# Altium footprint library jx.PcbLib: 37 footprints (part 3 of 3)
Each footprint in its own frame and in the unit in brackets; x right, y up, seen from the top. Pads: shape width x height; smd on the part's side, far side on the other; paste and mask are expansions set on the pad; w line width, h text height; cw(c..) or ccw(c..) is an arc to the next point about the centre after c.
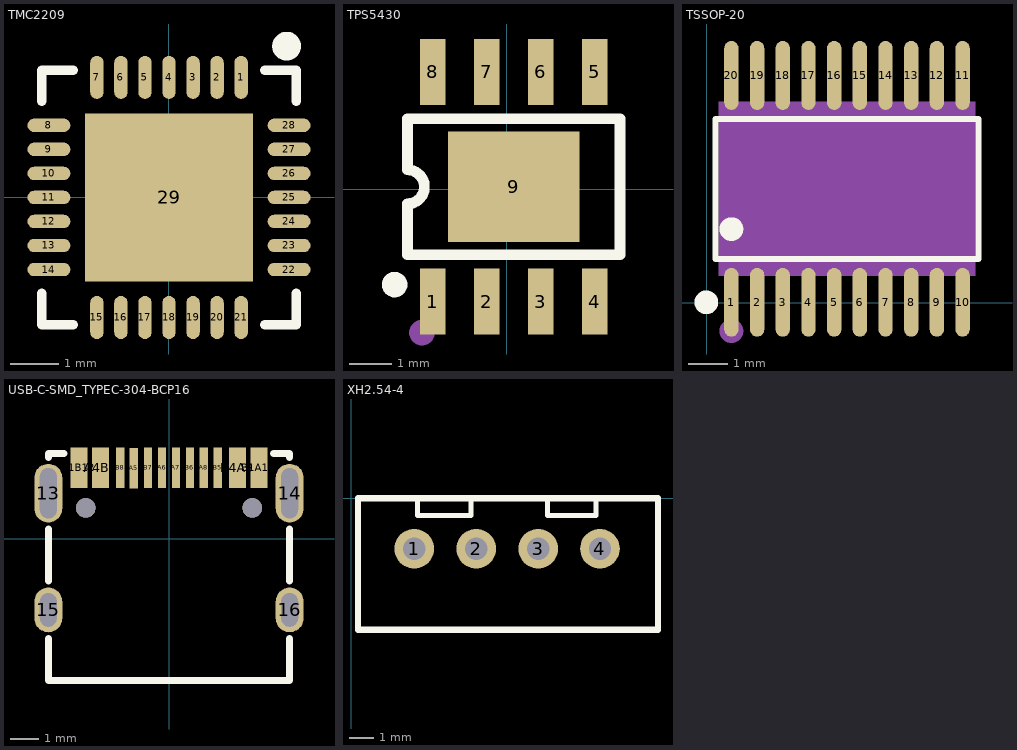
[diagram p2: the footprints below, top view; thin cyan lines are the x and y axes]

## TMC2209 [mm]
pads (29):
  oval 0.28x0.896 smd: 1(1.501,2.5) 2(1.001,2.5) 3(0.501,2.5) 4(0,2.5) 5(-0.5,2.5) 6(-1.001,2.5) 7(-1.501,2.5) 15(-1.501,-2.5) 16(-1.001,-2.5) 17(-0.5,-2.5) 18(0,-2.5) 19(0.501,-2.5) 20(1.001,-2.5) 21(1.501,-2.5)
  oval 0.896x0.28 smd: 8(-2.5,1.501) 9(-2.5,1.001) 10(-2.5,0.5) 11(-2.5,0) 12(-2.5,-0.5) 13(-2.5,-1.001) 14(-2.5,-1.501) 22(2.5,-1.501) 23(2.5,-1.001) 24(2.5,-0.5) 25(2.5,0) 26(2.5,0.5) 27(2.5,1.001) 28(2.5,1.501)
  rect 3.5x3.5 smd: 29(0,0)
Top Overlay:
  lines w0.2: -2.65,-2 -2.65,-2.65 -2,-2.65 ; -2.65,2 -2.65,2.65 -2,2.65 ; 2,-2.65 2.65,-2.65 2.65,-2 ; 2,2.65 2.65,2.65 2.65,2
  lines w0.3: 2.449,3 cw(c2.45,3.15) 2.451,3
3D body: height 1, standoff 0.25, extent -2.667,-2.616 2.642,2.642

## TPS5430 [mm]
pads (9):
  rect 0.6x1.55 smd: 1(-1.742,-2.648) 2(-0.472,-2.648) 3(0.798,-2.648) 4(2.068,-2.648) 5(2.068,2.752) 6(0.798,2.752) 7(-0.472,2.752) 8(-1.742,2.752)
  rect 3.1x2.6 smd: 9(0.163,0.052)
Top Overlay:
  circle w0.3: c-2.638,-2.248 r0.15
  lines w0.254: -2.338,-1.548 -2.338,-0.348 ccw(c-2.338,0.052) -2.338,0.452 -2.337,1.652 2.661,1.652 2.661,-1.548 -2.337,-1.548
Mechanical 15:
  circle w0.3: c-1.996,-3.377 r0.15
3D body "SOIC8_4P9X3P9MC_MCH.step": height 1.75, standoff 0, extent -2.304,-2.907 2.598,3.291

## TSSOP-20 [mm]
pads (20):
  oval 0.364x1.742 smd: 1(0.62,0.006) 2(1.27,0.006) 3(1.92,0.006) 4(2.57,0.006) 5(3.22,0.006) 6(3.87,0.006) 7(4.52,0.006) 8(5.17,0.006) 9(5.82,0.006) 10(6.47,0.006) 11(6.47,5.748) 12(5.82,5.748) 13(5.17,5.748) 14(4.52,5.748) 15(3.87,5.748) 16(3.22,5.748) 17(2.57,5.748) 18(1.92,5.748) 19(1.27,5.748) 20(0.62,5.748)
Top Overlay:
  circle w0.3: c-0.014,0.006 r0.15
  circle w0.3: c0.62,1.858 r0.15
  lines w0.152: 0.219,1.106 6.871,1.106 6.871,4.648 0.219,4.648 0.219,1.106
Mechanical 4:
  region: 0.295,0.677 0.295,5.077 6.795,5.077 6.795,0.677
Mechanical 5:
  drawing of 40 lines, arcs and shapes, not listed
Mechanical 15:
  circle w0.3: c0.62,-0.723 r0.15
3D body "TSSOP20.STEP": height 1.03, standoff -0.02, extent 0.306,-0.306 6.806,6.098

## USB-C-SMD_TYPEC-304-BCP16 [mm]
pads (18):
  oval 1x2.099 hole 0.6 slot 1.8 at 90 deg: 13(-4.32,1.633) 14(4.32,1.633)
  oval 1x1.599 hole 0.6 slot 1.2 at 90 deg: 15(-4.32,-2.547) 16(4.32,-2.547)
  rect 0.6x1.45 smd: A1B12(-3.225,2.547) A4B9(-2.45,2.547) B1A12(3.22,2.547) B4A9(2.45,2.547)
  rect 0.3x1.45 smd: A5(-1.26,2.532) A6(-0.25,2.547) A7(0.25,2.547) A8(1.25,2.547) B5(1.75,2.547) B6(0.75,2.547) B7(-0.75,2.547) B8(-1.75,2.547)
  round 0.7 hole 0.7 unplated: ""(-2.98,1.102) ""(2.98,1.102)
Top Overlay:
  lines w0.254: -4.318,-3.579 -4.318,-5.08 4.318,-5.08 4.318,-3.579 ; -4.318,-1.516 -4.318,0.351 ; -4.318,2.914 -4.318,3.048 -3.756,3.048 ; 3.751,3.048 4.318,3.048 4.318,2.914 ; 4.318,-1.516 4.318,0.351
3D body "USB Type-C_A.STEP": height 3.25, standoff -0.85, extent -4.47,-5.115 4.47,2.785

## XH2.54-4 [mm]
pads (4):
  round 1.6 hole 0.9: 1(2.54,-2.032) 2(5.04,-2.032) 3(7.54,-2.032) 4(10.033,-2.032)
Top Overlay:
  lines w0.2: 2.675,0 2.675,-0.7 4.825,-0.7 4.825,0 ; 7.925,0 7.925,-0.7 9.875,-0.7 9.875,0
  lines w0.254: 0.275,-5.3 12.375,-5.3 12.375,0 0.275,0 0.275,-5.3
3D body "User Library-B4B-XH-A.STEP": height 7, standoff -3.4, extent 0.075,-5.475 12.475,0.275